# Altium schematic symbol library Atmel.SchLib: 6 symbols
Pins are listed as number, name and electrical type; pins without a type are passive.

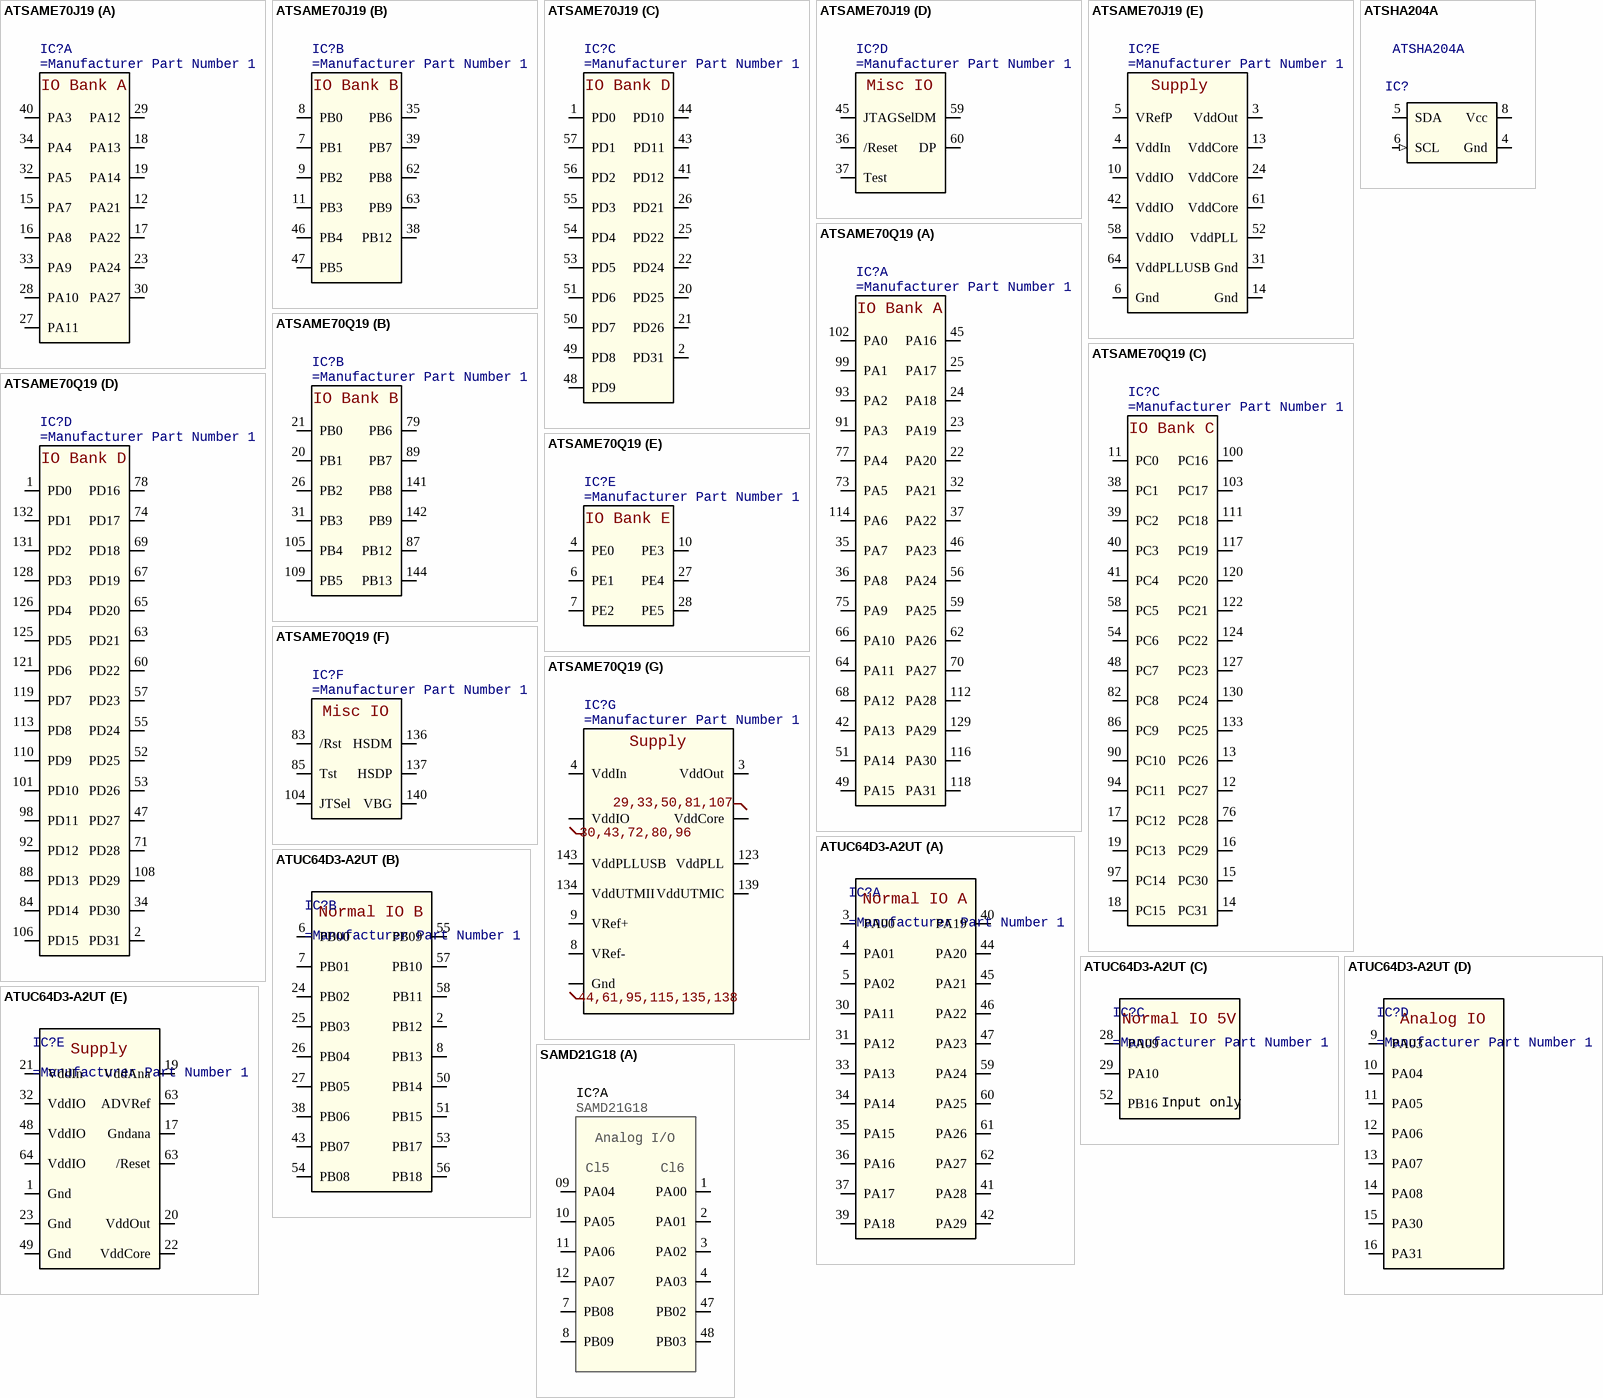
[diagram p0: symbols ATSAME70J19 to SAMD21G18]

## ATSAME70J19
designator IC?
part A pins: 12 PA21, 15 PA7, 16 PA8, 17 PA22, 18 PA13, 19 PA14, 23 PA24, 27 PA11, 28 PA10, 29 PA12, 30 PA27, 32 PA5, 33 PA9, 34 PA4, 40 PA3
part B pins: 7 PB1, 8 PB0, 9 PB2, 11 PB3, 35 PB6, 38 PB12, 39 PB7, 46 PB4, 47 PB5, 62 PB8, 63 PB9
part C pins: 1 PD0, 2 PD31, 20 PD25, 21 PD26, 22 PD24, 25 PD22, 26 PD21, 41 PD12, 43 PD11, 44 PD10, 48 PD9, 49 PD8, 50 PD7, 51 PD6, 53 PD5, 54 PD4, 55 PD3, 56 PD2, 57 PD1
part D pins: 36 /Reset, 37 Test, 45 JTAGSel, 59 DM, 60 DP
part E pins: 3 VddOut (power), 4 VddIn (power), 5 VRefP, 6 Gnd (power), 10 VddIO (power), 13 VddCore (power), 14 Gnd (power), 24 VddCore (power), 31 Gnd (power), 42 VddIO (power), 52 VddPLL (power), 58 VddIO (power), 61 VddCore (power), 64 VddPLLUSB (power)
part A text: IO Bank A
part B text: IO Bank B
part C text: IO Bank D
part D text: Misc IO
part E text: Supply

## ATSAME70Q19
designator IC?
part A pins: 22 PA20, 23 PA19, 24 PA18, 25 PA17, 32 PA21, 35 PA7, 36 PA8, 37 PA22, 42 PA13, 45 PA16, 46 PA23, 49 PA15, 51 PA14, 56 PA24, 59 PA25, 62 PA26, 64 PA11, 66 PA10, 68 PA12, 70 PA27, 73 PA5, 75 PA9, 77 PA4, 91 PA3, 93 PA2, 99 PA1, 102 PA0, 112 PA28, 114 PA6, 116 PA30, 118 PA31, 129 PA29
part B pins: 20 PB1, 21 PB0, 26 PB2, 31 PB3, 79 PB6, 87 PB12, 89 PB7, 105 PB4, 109 PB5, 141 PB8, 142 PB9, 144 PB13
part C pins: 11 PC0, 12 PC27, 13 PC26, 14 PC31, 15 PC30, 16 PC29, 17 PC12, 18 PC15, 19 PC13, 38 PC1, 39 PC2, 40 PC3, 41 PC4, 48 PC7, 54 PC6, 58 PC5, 76 PC28, 82 PC8, 86 PC9, 90 PC10, 94 PC11, 97 PC14, 100 PC16, 103 PC17, 111 PC18, 117 PC19, 120 PC20, 122 PC21, 124 PC22, 127 PC23, 130 PC24, 133 PC25
part D pins: 1 PD0, 2 PD31, 34 PD30, 47 PD27, 52 PD25, 53 PD26, 55 PD24, 57 PD23, 60 PD22, 63 PD21, 65 PD20, 67 PD19, 69 PD18, 71 PD28, 74 PD17, 78 PD16, 84 PD14, 88 PD13, 92 PD12, 98 PD11, 101 PD10, 106 PD15, 108 PD29, 110 PD9, 113 PD8, 119 PD7, 121 PD6, 125 PD5, 126 PD4, 128 PD3, 131 PD2, 132 PD1
part E pins: 4 PE0, 6 PE1, 7 PE2, 10 PE3, 27 PE4, 28 PE5
part F pins: 83 /Rst, 85 Tst, 104 JTSel, 136 HSDM, 137 HSDP, 140 VBG
part G pins: 3 VddOut (power), 4 VddIn (power), 8 VRef-, 9 VRef+, 29 VddCore (power), 30 VddIO (power), 33 VddCore (power), 43 VddIO (power), 44 Gnd (power), 50 VddCore (power), 61 Gnd (power), 72 VddIO (power), 80 VddIO (power), 81 VddCore (power), 95 Gnd (power), 96 VddIO (power), 107 VddCore (power), 115 Gnd (power), 123 VddPLL (power), 134 VddUTMII (power), 135 Gnd (power), 138 Gnd (power), 139 VddUTMIC (power), 143 VddPLLUSB (power)
part A text: IO Bank A
part B text: IO Bank B
part C text: IO Bank C
part D text: IO Bank D
part E text: IO Bank E
part F text: Misc IO
part G text: Supply; 29,33,50,81,107; 30,43,72,80,96; 44,61,95,115,135,138

## ATSHA204A
designator IC?
Atmel Crypto Authentification; Manufacturer 1: Atmel; Value: *; Manufacturer Part Number 1: ATSHA204A
footprint SOIC127P590X175-8N (SOIC, 8-Leads, Body 4.90x3.90mm, Pitch 1.27mm, IPC Medium Density)
pins: 1 NC hidden, 2 NC hidden, 3 NC hidden, 4 Gnd (power), 5 SDA (io), 6 SCL (in), 7 NC hidden, 8 Vcc (power)

## ATUC64D3-A2UT
designator IC?
AVR32 MCU
footprint TQFP50P1200X1200X120-64N (TQFP, 64-Leads, Body 10.00x10.00mm, Pitch 0.50mm, IPC Medium Density)
part A pins: 3 PA00, 4 PA01, 5 PA02, 30 PA11, 31 PA12, 33 PA13, 34 PA14, 35 PA15, 36 PA16, 37 PA17, 39 PA18, 40 PA19, 41 PA28, 42 PA29, 44 PA20, 45 PA21, 46 PA22, 47 PA23, 59 PA24, 60 PA25, 61 PA26, 62 PA27
part B pins: 2 PB12, 6 PB00, 7 PB01, 8 PB13, 24 PB02, 25 PB03, 26 PB04, 27 PB05, 38 PB06, 43 PB07, 50 PB14, 51 PB15, 53 PB17, 54 PB08, 55 PB09, 56 PB18, 57 PB10, 58 PB11
part C pins: 28 PA09, 29 PA10, 52 PB16
part D pins: 9 PA03, 10 PA04, 11 PA05, 12 PA06, 13 PA07, 14 PA08, 15 PA30, 16 PA31
part E pins: 1 Gnd (power), 17 Gndana (power), 19 VddAna (power), 20 VddOut, 21 VddIn, 22 VddCore, 23 Gnd (power), 32 VddIO (power), 48 VddIO (power), 49 Gnd (power), 63 ADVRef, 63 /Reset, 64 VddIO (power)
part A text: Normal IO A
part B text: Normal IO B
part C text: Normal IO 5V; Input only
part D text: Analog IO
part E text: Supply

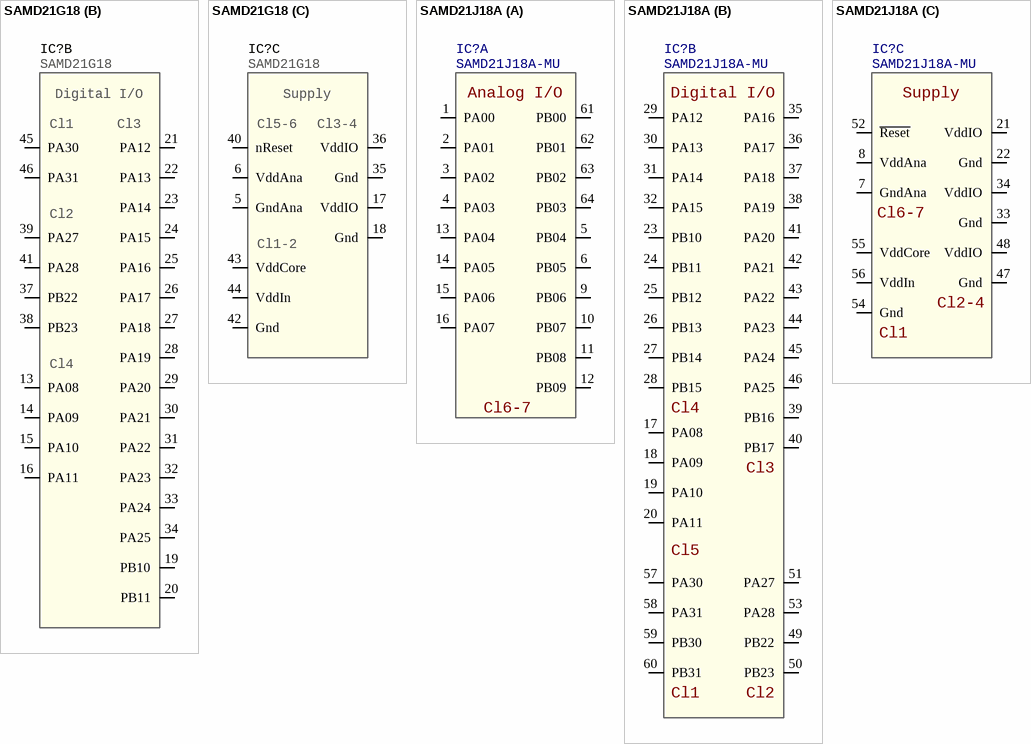
[diagram p1: symbols SAMD21G18 to SAMD21J18A]

## SAMD21G18
designator IC?
Microcontroller, TQFP Package, 48 Pins, 38 GPIOs; Manufacturer 1: Atmel; Manufacturer Part Number 1: SAMD21G18; Datasheet: http://www.atmel.com/Images/Atmel-42181-SAM-D21_Datasheet.pdf
footprint TQFP50P1200X1200X120-64N (TQFP, 64-Leads, Body 10.00x10.00mm, Pitch 0.50mm, IPC Medium Density)
part A pins: 1 PA00, 2 PA01, 3 PA02, 4 PA03, 7 PB08, 8 PB09, 09 PA04, 10 PA05, 11 PA06, 12 PA07, 47 PB02, 48 PB03
part B pins: 13 PA08, 14 PA09, 15 PA10, 16 PA11, 19 PB10, 20 PB11, 21 PA12, 22 PA13, 23 PA14, 24 PA15, 25 PA16, 26 PA17, 27 PA18, 28 PA19, 29 PA20, 30 PA21, 31 PA22, 32 PA23, 33 PA24, 34 PA25, 37 PB22, 38 PB23, 39 PA27, 41 PA28, 45 PA30, 46 PA31
part C pins: 5 GndAna (power), 6 VddAna (power), 17 VddIO (power), 18 Gnd (power), 35 Gnd (power), 36 VddIO (power), 40 nReset, 42 Gnd (power), 43 VddCore (power), 44 VddIn (power)
part A text: Analog I/O; Cl5; Cl6
part B text: Digital I/O; Cl1; Cl3; Cl2; Cl4
part C text: Supply; Cl5-6; Cl3-4; Cl1-2

## SAMD21J18A
designator IC?, comment SAMD21J18A-MU
Microcontroller, TQFP Package, 64 Pins, 52 GPIOs; Manufacturer 1: Atmel; Manufacturer Part Number 1: SAMD21J18A-MU; Datasheet: http://www.atmel.com/Images/Atmel-42181-SAM-D21_Datasheet.pdf
footprint TQFP50P1200X1200X120-64N (TQFP, 64-Leads, Body 10.00x10.00mm, Pitch 0.50mm, IPC Medium Density)
part A pins: 1 PA00, 2 PA01, 3 PA02, 4 PA03, 5 PB04, 6 PB05, 9 PB06, 10 PB07, 11 PB08, 12 PB09, 13 PA04, 14 PA05, 15 PA06, 16 PA07, 61 PB00, 62 PB01, 63 PB02, 64 PB03
part B pins: 17 PA08, 18 PA09, 19 PA10, 20 PA11, 23 PB10, 24 PB11, 25 PB12, 26 PB13, 27 PB14, 28 PB15, 29 PA12, 30 PA13, 31 PA14, 32 PA15, 35 PA16, 36 PA17, 37 PA18, 38 PA19, 39 PB16, 40 PB17, 41 PA20, 42 PA21, 43 PA22, 44 PA23, 45 PA24, 46 PA25, 49 PB22, 50 PB23, 51 PA27, 53 PA28, 57 PA30, 58 PA31, 59 PB30, 60 PB31
part C pins: 7 GndAna (power), 8 VddAna (power), 21 VddIO (power), 22 Gnd (power), 33 Gnd (power), 34 VddIO (power), 47 Gnd (power), 48 VddIO (power), 52 ~{Reset}, 54 Gnd (power), 55 VddCore (power), 56 VddIn (power)
part A text: Analog I/O; Cl6-7
part B text: Digital I/O; Cl4; Cl3; Cl5; Cl1; Cl2
part C text: Supply; Cl6-7; Cl2-4; Cl1